# Altium footprint library DIODE_SMD.PcbLib: 8 footprints
Each footprint in its own frame and in the unit in brackets; x right, y up, seen from the top. Pads: shape width x height; smd on the part's side, far side on the other; paste and mask are expansions set on the pad; w line width, h text height; cw(c..) or ccw(c..) is an arc to the next point about the centre after c.
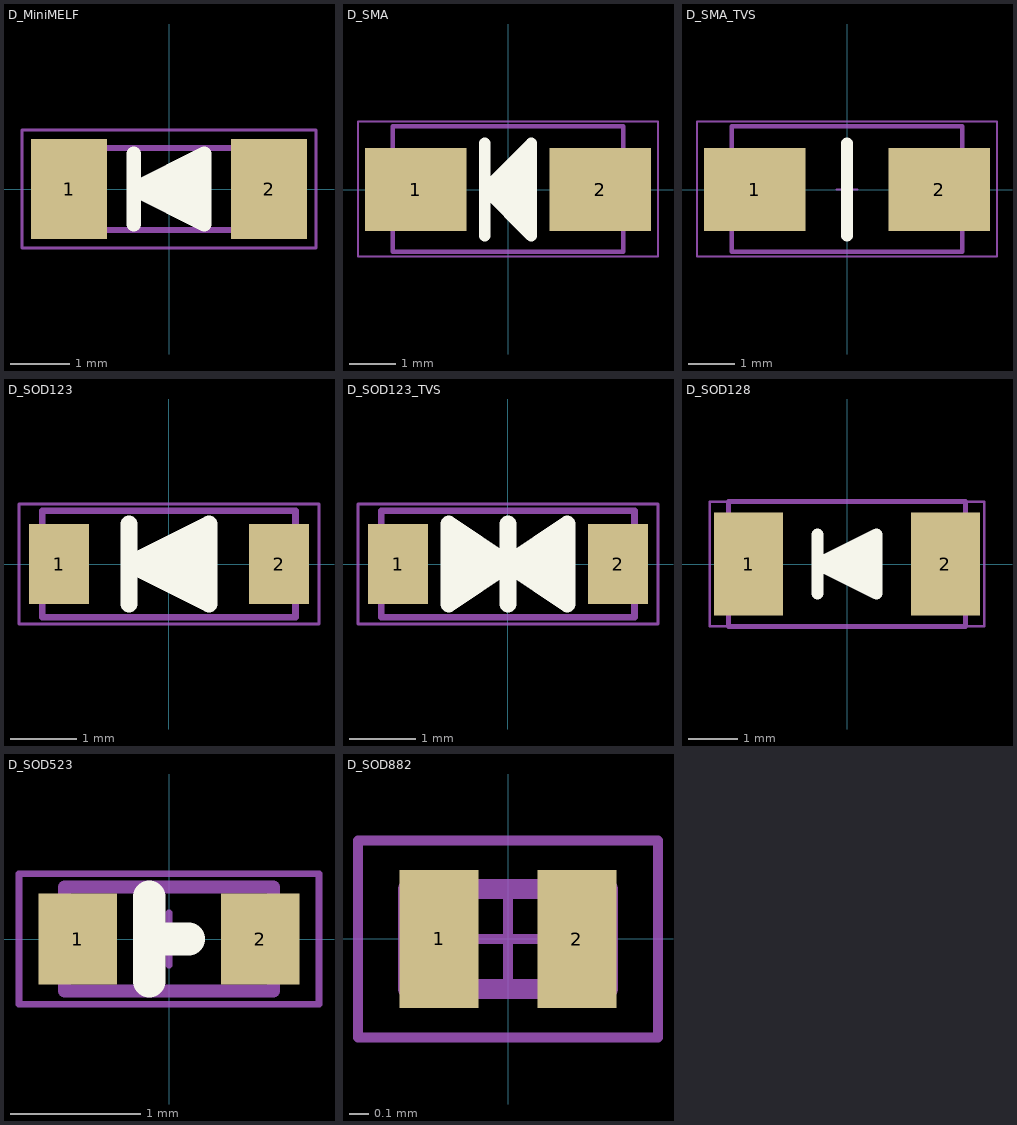
[diagram p0: the footprints below, top view; thin cyan lines are the x and y axes]

## D_MiniMELF [mm] "Diode MiniMELF"
pads (2):
  rect 1.3x1.7 smd: 1(-1.7,0) 2(1.7,0)
Top Overlay:
  region: -0.6,0 0.6,0.6 0.6,-0.6
  lines w0.25: -0.6,-0.6 -0.6,0.6 ; -0.6,0 0.6,-0.6 0.6,0.6 -0.6,0
Mechanical 13:
  lines w0.1: -1.8,-0.7 1.8,-0.7 1.8,0.7 -1.8,0.7 -1.8,-0.7
Mechanical 15:
  lines w0.05: -0.225,0 0.225,0 ; 0,-0.2 0,0.2 ; -2.5,-1 -2.5,1 2.5,1 2.5,-1 -2.5,-1
3D body "D_MiniMELF.step": height 1.4, standoff 0, extent -1.8,-0.695 1.8,0.695

## D_SMA [mm] "Diode SMA."
pads (2):
  rect 2.2x1.8 smd: 1(-2,0) 2(2,0)
Top Overlay:
  region: -0.5,0 0.5,1 0.5,-1
  lines w0.25: -0.5,-1 -0.5,1 ; -0.5,0 0.5,-1 0.5,1 -0.5,0
Mechanical 13:
  lines w0.1: -2.5,-1.35 2.5,-1.35 2.5,1.375 -2.5,1.375 -2.5,-1.35
Mechanical 15:
  lines w0.05: -0.225,0 0.225,0 ; 0,-0.2 0,0.2 ; -3.25,-1.45 3.25,-1.45 3.25,1.475 -3.25,1.475 -3.25,-0.75 -3.25,-1.45
3D body "D_SMA.step": height 2.24, standoff 0.02, extent -2.5,-1.35 2.5,1.35

## D_SMA_TVS [mm] "Diode TVS SMA."
pads (2):
  rect 2.2x1.8 smd: 1(-2,0) 2(2,0)
Top Overlay:
  lines w0.25: 0,-1 0,0 ; 0,1 0,0 ; 0,0 0,0
Mechanical 13:
  lines w0.1: -2.5,-1.35 2.5,-1.35 2.5,1.375 -2.5,1.375 -2.5,-1.35
Mechanical 15:
  lines w0.05: -0.225,0 0.225,0 ; 0,-0.2 0,0.2 ; -3.25,-1.45 3.25,-1.45 3.25,1.475 -3.25,1.475 -3.25,-0.75 -3.25,-1.45
3D body "SMA_TVS.step": height 1.98, standoff 0.03, extent -2.555,-1.35 2.555,1.35

## D_SOD123 [mm] "Diode SOD123"
pads (2):
  rect 0.9x1.2 smd: 1(-1.65,0) 2(1.65,0)
Top Overlay:
  region: -0.6,0 0.6,0.6 0.6,-0.6
  lines w0.25: -0.6,-0.6 -0.6,0.6 ; -0.6,0 0.6,-0.6 0.6,0.6 -0.6,0
Mechanical 13:
  lines w0.1: -1.9,-0.8 1.898,-0.8 1.898,0.8 -1.9,0.8 -1.9,-0.8
Mechanical 15:
  lines w0.05: -0.225,0 0.225,0 ; 0,-0.2 0,0.2 ; -2.25,-0.9 -2.25,-0.175 -2.25,0.9 2.25,0.9 2.25,-0.9 -2.25,-0.9
3D body "D_SOD-123.step": height 1.25, standoff 0, extent -1.9,-0.8 1.9,0.8

## D_SOD123_TVS [mm] "Diode TVS SOD123"
pads (2):
  rect 0.9x1.2 smd: 1(-1.65,0) 2(1.65,0)
Top Overlay:
  region: 0,0 0.889,0.6 0.889,-0.6
  region: 0,0 -0.889,-0.6 -0.889,0.6
  lines w0.25: 0,-0.6 0,0.6
  lines w0.254: 0,0 0.889,0.6 0.889,-0.6 0,0 ; 0,0 -0.889,-0.6 -0.889,0.6 0,0
Mechanical 13:
  lines w0.1: -1.9,-0.8 1.898,-0.8 1.898,0.8 -1.9,0.8 -1.9,-0.8
Mechanical 15:
  lines w0.05: -0.225,0 0.225,0 ; 0,-0.2 0,0.2 ; -2.25,-0.9 -2.25,-0.175 -2.25,0.9 2.25,0.9 2.25,-0.9 -2.25,-0.9
3D body "D_SOD-123.step": height 1.25, standoff 0, extent -1.9,-0.8 1.9,0.8

## D_SOD128 [mm] "Diode SOD128"
pads (2):
  rect 1.4x2.1 smd: 1(-2,0) 2(2,0)
Top Overlay:
  region: -0.6,0 0.6,0.6 0.6,-0.6
  lines w0.25: -0.6,-0.6 -0.6,0.6 ; -0.6,0 0.6,-0.6 0.6,0.6 -0.6,0
Mechanical 13:
  lines w0.1: -2.413,-1.27 2.413,-1.27 2.413,1.27 -2.413,1.27 -2.413,-1.27
Mechanical 15:
  lines w0.05: -0.225,0 0.225,0 ; 0,-0.2 0,0.2 ; -2.794,-1.27 -2.794,-0.719 -2.794,1.27 2.794,1.27 2.794,-1.27 -2.794,-1.27
3D body "D_SOD-128.step": height 1.03, standoff 0.02, extent -2.35,-1.25 2.35,1.25

## D_SOD523 [mm] "Diode SOD523"
pads (2):
  rect 0.6x0.7 smd: 1(-0.7,0) 2(0.7,0)
Top Overlay:
  lines w0.25: -0.15,-0.325 -0.15,0.325 ; -0.15,0 0.15,0
Mechanical 13:
  lines w0.1: -0.8,-0.4 0.8,-0.4 0.8,0.4 -0.8,0.4 -0.8,-0.4
Mechanical 15:
  lines w0.05: -0.225,0 0.225,0 ; 0,-0.2 0,0.2 ; -1.15,-0.5 1.15,-0.5 1.15,0.5 -1.15,0.5 -1.15,-0.5
3D body "D_SOD-523.step": height 0.63, standoff 0, extent -0.8,-0.4 0.8,0.4

## D_SOD882 [mm] "Diode SOD882"
pads (2):
  rect 0.4x0.7 smd: 1(-0.35,0) 2(0.35,0)
Mechanical 13:
  lines w0.1: -0.508,-0.254 -0.508,0.254 0.508,0.254 0.508,-0.254 -0.508,-0.254
Mechanical 15:
  lines w0.05: -0.225,0 0.225,0 ; 0,-0.2 0,0.2 ; -0.762,-0.5 -0.762,0.5 0.762,0.5 0.762,-0.5 -0.762,-0.5
3D body "D_SOD-882.step": height 0.49, standoff 0, extent -0.5,-0.3 0.5,0.3